# Altium footprint library MT-MONITOR V1.0.0.PcbLib: 47 footprints (part 3 of 3)
Each footprint in its own frame and in the unit in brackets; x right, y up, seen from the top. Pads: shape width x height; smd on the part's side, far side on the other; paste and mask are expansions set on the pad; w line width, h text height; cw(c..) or ccw(c..) is an arc to the next point about the centre after c.
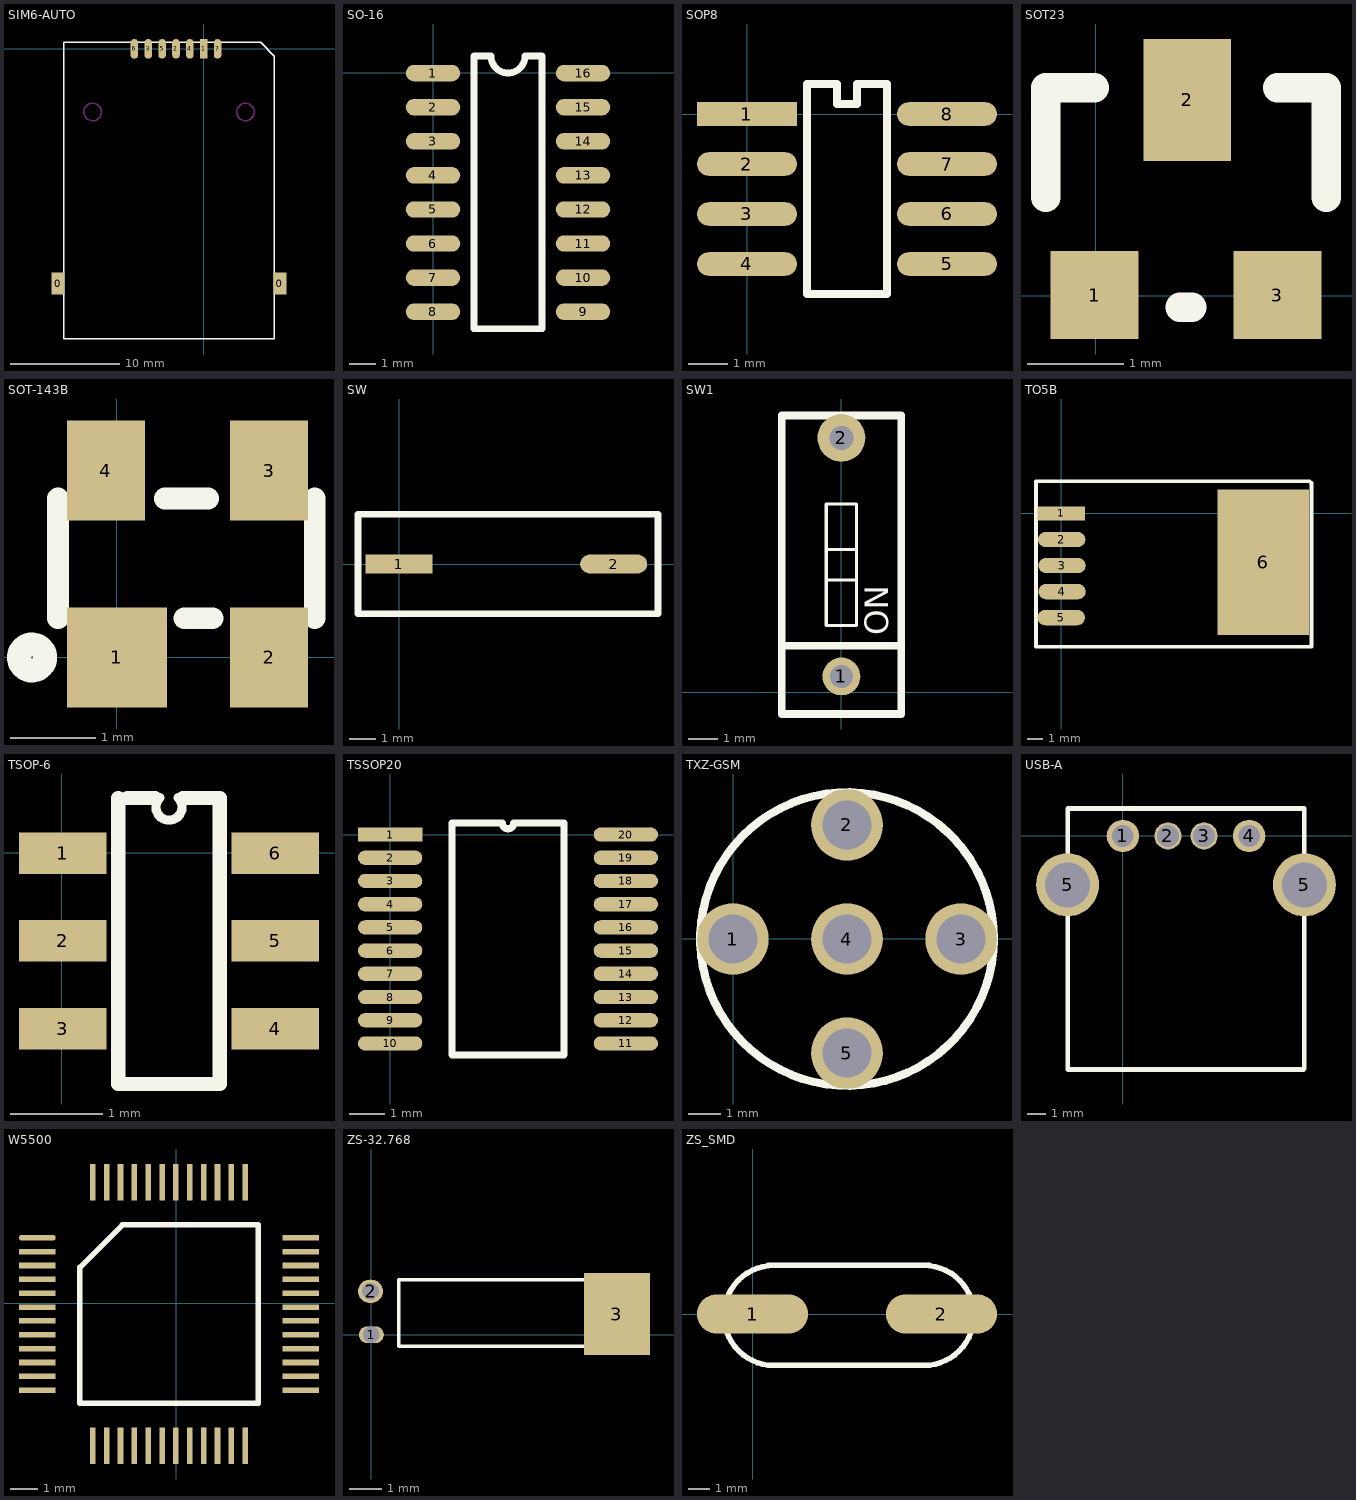
[diagram p2: the footprints below, top view; thin cyan lines are the x and y axes]

## SIM6-AUTO [mm]
height 2.5
pads (9):
  rect 1.2x2 smd: 0(-13.337,-21.485) 0(6.983,-21.485)
  rect 0.7x1.8 smd: 1(0,0)
  oval 0.7x1.8 smd: 2(-2.54,0) 3(-5.08,0) 4(-1.27,0) 5(-3.81,0) 6(-6.35,0) 7(1.27,0)
Top Overlay:
  lines w0.127: -12.829,-26.565 6.475,-26.565 6.475,-0.657 5.205,0.613 -12.829,0.613 -12.829,-26.565
Keep-Out Layer:
  lines w0.127: -10.975,-5.806 cw(c-10.175,-5.787) -10.973,-5.844 ; 3.025,-5.806 cw(c3.825,-5.787) 3.027,-5.844

## SO-16 [mil]
height 9.5
pads (16):
  oval 80x24 smd: 1(-0.2,-0.3) 2(-0.2,-50.3) 3(-0.2,-100.3) 4(-0.2,-150.3) 5(-0.2,-200.3) 6(-0.2,-250.3) 7(-0.2,-300.3) 8(-0.2,-350.3) 9(219.8,-350.3) 10(219.8,-300.3) 11(219.8,-250.3) 12(219.8,-200.3) 13(219.8,-150.3) 14(219.8,-100.3) 15(219.8,-50.3) 16(219.8,-0.3)
Top Overlay:
  lines w10: 59.8,-375.3 159.8,-375.3 159.8,24.7 134.8,24.7 cw(c109.8,24.7) 84.8,24.7 59.8,24.7 59.8,-375.3

## SOP8 [mm]
pads (8):
  rect 2.54x0.6 smd: 1(-0.006,0.006)
  oval 2.54x0.6 smd: 2(-0.006,-1.264) 3(-0.006,-2.534) 4(-0.006,-3.804) 5(5.074,-3.804) 6(5.074,-2.534) 7(5.074,-1.264) 8(5.074,0.006)
Top Overlay:
  lines w0.203: 1.518,-4.566 1.518,0.768 2.28,0.768 2.28,0.26 2.788,0.26 2.788,0.768 3.55,0.768 3.55,-4.566 1.518,-4.566

## SOT23 [mil]
height 9.5
pads (3):
  rect 36x36 smd: 1(-0.49,0.35) 3(74.51,0.35)
  rect 36x50 smd: 2(37.51,80.35)
Top Overlay:
  lines w12: -20.49,40.35 -20.49,85.35 -0.49,85.35 ; 34.51,-4.65 39.51,-4.65 ; 74.51,85.35 94.51,85.35 94.51,40.35

## SOT-143B [mil]
height 9.5
pads (4):
  rect 46x46 smd: 1(0,0)
  rect 36x46 smd: 2(70,0) 3(70,86) 4(-5,86)
Top Overlay:
  circle w11: c-39,0 r6
  lines w10: -27.11,18 -27.11,73.12 ; 22,73.12 42,73.12 ; 31,18 44,18 ; 91,18 91,73.12

## SW [mm]
pads (2):
  rect 2.5x0.7 smd: 1(-0.006,0.008)
  oval 2.5x0.7 smd: 2(7.994,0.008)
Top Overlay:
  lines w0.254: -1.53,-1.842 9.646,-1.842 9.646,1.858 -1.53,1.858 -1.53,-1.842

## SW1 [mm]
pads (2):
  round 1.27 hole 0.762: 1(0.011,0.523)
  round 1.6 hole 0.8: 2(0.011,8.515)
Top Overlay:
  lines w0.102: -0.497,3.757 0.519,3.757 ; -0.497,4.773 0.519,4.773 ; -0.497,2.233 0.519,2.233 0.519,6.297 -0.497,6.297 -0.497,2.233
  lines w0.254: -1.989,1.547 2.011,1.547 ; -1.989,-0.735 2.011,-0.735 2.011,9.265 -1.989,9.265 -1.989,-0.735
  text "ON" at 1.586,1.902 h0.8

## TO5B [mm]
pads (6):
  rect 3.1x0.9 smd: 1(-0.001,-0.004)
  oval 3.1x1 smd: 2(0.024,-1.706) 3(0.05,-3.407) 4(0.05,-5.109) 5(-0.001,-6.811)
  rect 6x9.5 smd: 6(13.199,-3.204)
Top Overlay:
  lines w0.254: -1.652,-8.716 16.356,-8.716 ; -1.652,-8.696 -1.652,2.104 16.235,2.096 16.335,1.996 16.356,-8.716 ; 16.331,-8.716 16.356,-8.716

## TSOP-6 [mm]
pads (6):
  rect 0.95x0.45 smd: 1(0.013,-0.007) 2(0.013,-0.957) 3(0.013,-1.907) 4(2.313,-1.907) 5(2.313,-0.957) 6(2.313,-0.007)
Top Overlay:
  lines w0.1: 1.063,0.593 ccw(c1.163,0.493) 1.263,0.593
  lines w0.152: 0.613,0.593 0.613,-2.507 1.713,-2.507 1.713,0.593 1.313,0.593 ; 0.713,0.593 1.013,0.593

## TSSOP20 [mm]
height 0.241
pads (20):
  rect 1.8x0.4 smd: 1(0,0)
  oval 1.8x0.4 smd: 2(0,-0.65) 3(0,-1.3) 4(0,-1.95) 5(0,-2.6) 6(0,-3.25) 7(0,-3.9) 8(0,-4.55) 9(0,-5.2) 10(0,-5.85) 11(6.6,-5.85) 12(6.6,-5.2) 13(6.6,-4.55) 14(6.6,-3.9) 15(6.6,-3.25) 16(6.6,-2.6) 17(6.6,-1.95) 18(6.6,-1.3) 19(6.6,-0.65) 20(6.6,0)
Top Overlay:
  lines w0.2: 1.735,-6.175 1.735,0.325 3.137,0.325 ccw(c3.3,0.325) 3.462,0.325 4.865,0.325 4.865,-6.175 1.735,-6.175

## TXZ-GSM [mm]
height 2.5
pads (5):
  round 2.2 hole 1.5: 1(-0.011,-0.001) 2(3.489,3.499) 3(6.989,-0.001) 4(3.489,-0.001) 5(3.489,-3.501)
Top Overlay:
  circle w0.254: c3.489,-0.001 r4.5

## USB-A [mm]
pads (6):
  round 1.8 hole 1.2: 1(0,0) 4(7,0)
  round 1.5 hole 1.2: 2(2.5,0) 3(4.5,0)
  round 3.5 hole 2.5: 5(-3.07,-2.71) 5(10.07,-2.71)
Top Overlay:
  lines w0.254: -3.07,-12.954 -3.07,-10.798 -3.07,-2.71 -3.07,-0.105 -3.07,0.736 -3.07,1.502 -3.048,1.524 5.696,1.524 10.07,1.524 10.07,-10.783 10.07,-12.917 10.033,-12.954 -3.07,-12.954

## W5500 [mil]
pads (48):
  oval 52x7.87 smd: 1(-197,92.75)
  rect 52x7.87 smd: 2(-197,73.07) 3(-197,53.38) 4(-197,33.7) 5(-197,14.01) 6(-197,-5.67) 7(-197,-25.36) 8(-197,-45.04) 9(-197,-64.73) 10(-197,-84.41) 11(-197,-104.1) 12(-197,-123.78) 25(177.01,-123.78) 26(177.01,-104.1) 27(177.01,-84.41) 28(177.01,-64.73) 29(177.01,-45.04) 30(177.01,-25.36) 31(177.01,-5.67) 32(177.01,14.01) 33(177.01,33.7) 34(177.01,53.38) 35(177.01,73.07) 36(177.01,92.75)
  rect 7.87x52 smd: 13(-118.26,-202.52) 14(-98.58,-202.52) 15(-78.89,-202.52) 16(-59.2,-202.52) 17(-39.52,-202.52) 18(-19.84,-202.52) 19(-0.15,-202.52) 20(19.54,-202.52) 21(39.22,-202.52) 22(58.91,-202.52) 23(78.59,-202.52) 24(98.28,-202.52) 37(98.28,171.49) 38(78.59,171.49) 39(58.91,171.49) 40(39.22,171.49) 41(19.54,171.49) 42(-0.15,171.49) 43(-19.84,171.49) 44(-39.52,171.49) 45(-59.2,171.49) 46(-78.89,171.49) 47(-98.58,171.49) 48(-118.26,171.49)
Top Overlay:
  lines w7.87: -136.57,-142.09 116.58,-142.09 116.58,111.06 -76.13,111.06 -136.57,50.63 -136.57,-142.09

## ZS-32.768 [mil]
pads (3):
  oval 30x20 / inner oval 40x28 / far side oval 40x28 hole 20: 1(0.21,0.15)
  oval 30x28 / inner oval 40x28 / far side oval 40x28 hole 20: 2(-0.79,52.15)
  rect 78.74x98.42 smd: 3(295,25)
Top Overlay:
  lines w4: 33.21,-13.85 33.21,66.15 283.21,66.15 283.21,-13.85 33.21,-13.85

## ZS_SMD [mil]
pads (2):
  oval 200x70 smd: 1(0,0) 2(340,0)
Top Overlay:
  lines w10: 28.5,-92.5 38.5,-92.5 cw(c38.5,-2.5) 38.5,87.5 28.5,87.5 318.5,87.5 308.5,87.5 cw(c308.5,-2.5) 308.5,-92.5 318.5,-92.5 28.5,-92.5